# EAGLE library part 74LVC125ABQ-TSSOP (library Board4You)
Quad buffer/line driver,TSSOP14
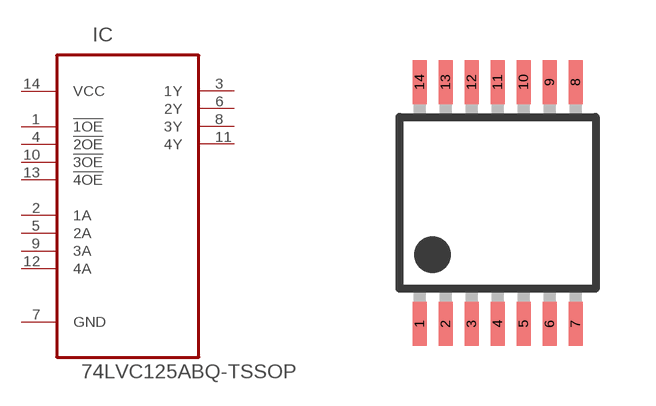
[diagram p16: symbol with the pads of TSSOP14; footprint TSSOP14]

Designator prefix IC

## 74LVC125ABQ-TSSOPTSSOP14  [TSSOP14]
1  !1OE  in
2  1A  in
3  1Y  out
4  !2OE  in
5  2A  in
6  2Y  out
7  GND  pas
8  3Y  out
9  3A  in
10  !3OE  in
11  4Y  out
12  4A  in
13  !4OE  in
14  VCC  pwr

## Footprint TSSOP14 (pad centres in mm)
plastic thin shrink small outline package; 14 leads; body width 4.4 mm SOT402-1 Source: http://www.nxp.com/documents/data_sheet/74ABT125.pdf
smd 0.35 x 1.1: 1 -1.95,-3.025; 2 -1.3,-3.025; 3 -0.65,-3.025; 4 0,-3.025; 5 0.65,-3.025; 6 1.3,-3.025; 7 1.95,-3.025; 8 1.95,3.025; 9 1.3,3.025; 10 0.65,3.025; 11 0,3.025; 12 -0.65,3.025; 13 -1.3,3.025; 14 -1.95,3.025